# EAGLE library part G-NICO-018 (library Sensors)
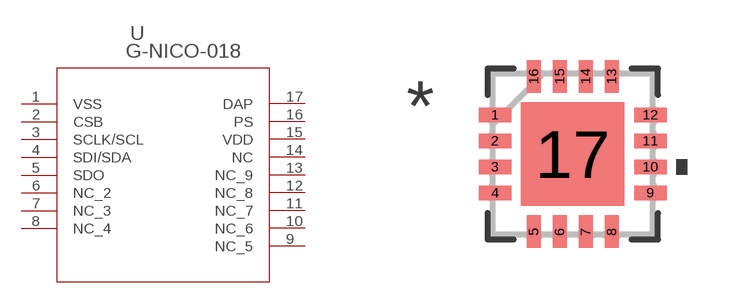
[diagram p8: symbol with the pads of QFN17_TSYS01; footprint QFN17_TSYS01]

Designator prefix U

## G-NICO-018 (BUILT_BY: EMA_UL_Team; CATEGORY: Digital Temperature Sensors; COPYRIGHT: Copyright (C) 2016 Accelerated Designs. All rights reserved; DESCRIPTION: 0.1 DEG C ACCURACY QFN TEMP SENSOR; MANUFACTURER_PART_NUMBER: G-NICO-018; OUTPUT-SPAN: -; PACKAGE: QFN16; PART_STATUS: active; PRODUCT_DESCRIPTION: TSYS01; PRODUCT_TYPE: -; SENSOR_TYPE: Digital IC Temperature Sensor; SERIES: MEAS TSYS; SUPPLY_VOLTAGE: 2.2  3.6; TE_PART_NUMBER: G-NICO-018; VENDOR: TE Connectivity)  [QFN17_TSYS01]
1  VSS  pas
2  CSB  in
3  SCLK/SCL  in
4  SDI/SDA
5  SDO  out
6  NC_2  nc
7  NC_3  nc
8  NC_4  nc
9  NC_5  nc
10  NC_6  nc
11  NC_7  nc
12  NC_8  nc
13  NC_9  nc
14  NC  nc
15  VDD  pwr
16  PS  in
17  DAP  pas

## Footprint QFN17_TSYS01 (pad centres in mm)
smd 0.813 x 0.356: 1 -1.943,0.975; 2 -1.943,0.325; 3 -1.943,-0.325; 4 -1.943,-0.975; 9 1.943,-0.975; 10 1.943,-0.325; 11 1.943,0.325; 12 1.943,0.975
smd 0.356 x 0.813: 5 -0.975,-1.943; 6 -0.325,-1.943; 7 0.325,-1.943; 8 0.975,-1.943; 13 0.975,1.943; 14 0.325,1.943; 15 -0.325,1.943; 16 -0.975,1.943
smd 2.591 x 2.591: 17 0,0